# Altium schematic symbol library SnapEDAsch.SchLib: 1 symbol
Pins are listed as number, name and electrical type; pins without a type are passive.

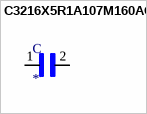
[diagram p0: symbol C3216X5R1A107M160AC]

## C3216X5R1A107M160AC
designator C
100ÂµF Â±20% 10V Ceramic Capacitor X5R 1206 _3216 Metric_; MF: TDK; MP: C3216X5R1A107M160AC; Price: None; Package: 3216 TDK; Availability: Unavailable; SnapEDA_Link: https://www.snapeda.com/parts/C3216X5R1A107M160AC/TDK/view-part/266472/?ref=snap; Value: *
footprint CAPC3216X180N
pins: 1, 2